# Altium schematic symbol library 电容.SchLib: 12 symbols
Pins are listed as number, name and electrical type; pins without a type are passive.

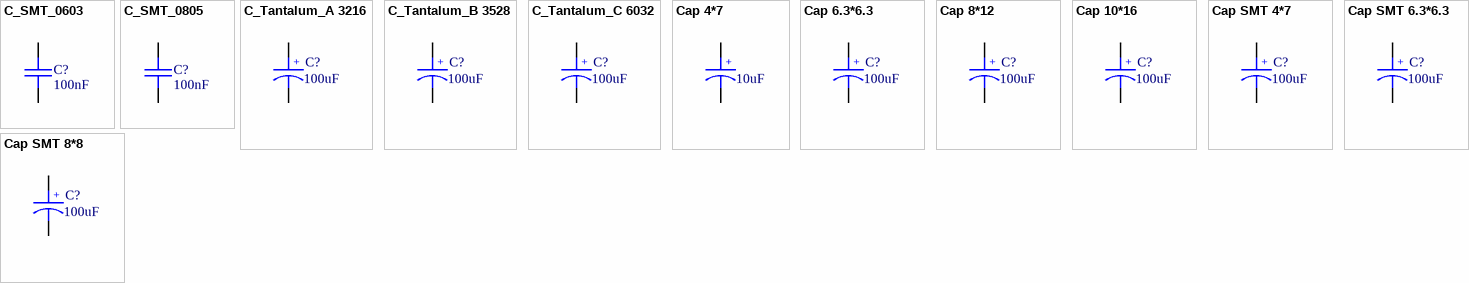
[diagram p0: symbols C_SMT_0603 to Cap SMT 8*8]

## C_SMT_0603
designator C?, comment 100nF
Surface mount capacitor 0603
footprint C0603
pins: 1, 2

## C_SMT_0805
designator C?, comment 100nF
Surface mount capacitor 0805
footprint C0805
pins: 1, 2

## C_Tantalum_A 3216
designator C?, comment 100uF
Capacitor, SM Tantalum; Body 3.5 x 2.8 mm (LxW typ)
footprint C3216 (A型/1206)
pins: 1, 2
text: +

## C_Tantalum_B 3528
designator C?, comment 100uF
Capacitor, SM Tantalum; Body 3.5 x 2.8 mm (LxW typ)
footprint C3528 (B型)
pins: 1, 2
text: +

## C_Tantalum_C 6032
designator C?, comment 100uF
Capacitor, SM Tantalum; Body 3.5 x 2.8 mm (LxW typ)
footprint C6032 (C型)
pins: 1, 2
text: +

## Cap 4*7
designator ?, comment 10uF
Capacitor, SM Tantalum; Body mm (LxW typ)
footprint C4X7
pins: 1, 2
text: +

## Cap 6.3*6.3
designator C?, comment 100uF
Capacitor, SM Tantalum; Body mm (LxW typ)
footprint C6X8
pins: 1, 2
text: +

## Cap 8*12
designator C?, comment 100uF
Capacitor, SM Tantalum; Body mm (LxW typ)
footprint C8X12
pins: 1, 2
text: +

## Cap 10*16
designator C?, comment 100uF
Capacitor, SM Tantalum; Body mm (LxW typ)
footprint C10x16 (RB.2/.4)
pins: 1, 2
text: +

## Cap SMT 4*7
designator C?, comment 100uF
Capacitor, SM Tantalum; Body mm (LxW typ)
footprint C4X4
pins: 1, 2
text: +

## Cap SMT 6.3*6.3
designator C?, comment 100uF
Capacitor, SM Tantalum; Body mm (LxW typ)
footprint C6.3X6.3
pins: 1, 2
text: +

## Cap SMT 8*8
designator C?, comment 100uF
Capacitor, SM Tantalum; Body mm (LxW typ)
footprint C8X8
pins: 1, 2
text: +